# Altium schematic symbol library J2.SchLib: 1 symbol
Pins are listed as number, name and electrical type; pins without a type are passive.

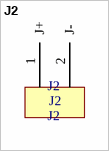
[diagram p0: symbol J2]

## J2
designator J2
pins: 1 J+, 2 J-